# Altium schematic symbol library TPS2041.SchLib: 1 symbol
Pins are listed as number, name and electrical type; pins without a type are passive.

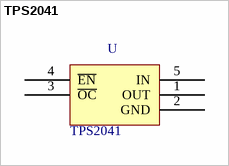
[diagram p0: symbol TPS2041]

## TPS2041
designator U  value TPS2041  (hidden comment: *)
Manufacturer Code: TPS2041BDBVR; Manufacturer: Texas Instruments; Comments: USB Power Distribution Switch; Farnell Code: 1703472; MOQ: 1; Unit Price: 0,784 €
footprint SOT23-5
pins: 1 OUT, 2 GND, 3 ~{OC}, 4 ~{EN}, 5 IN